# Altium footprint library 1206_Chip_Resistor.PcbLib: 1 footprints
Each footprint in its own frame and in the unit in brackets; x right, y up, seen from the top. Pads: shape width x height; smd on the part's side, far side on the other; paste and mask are expansions set on the pad; w line width, h text height; cw(c..) or ccw(c..) is an arc to the next point about the centre after c.
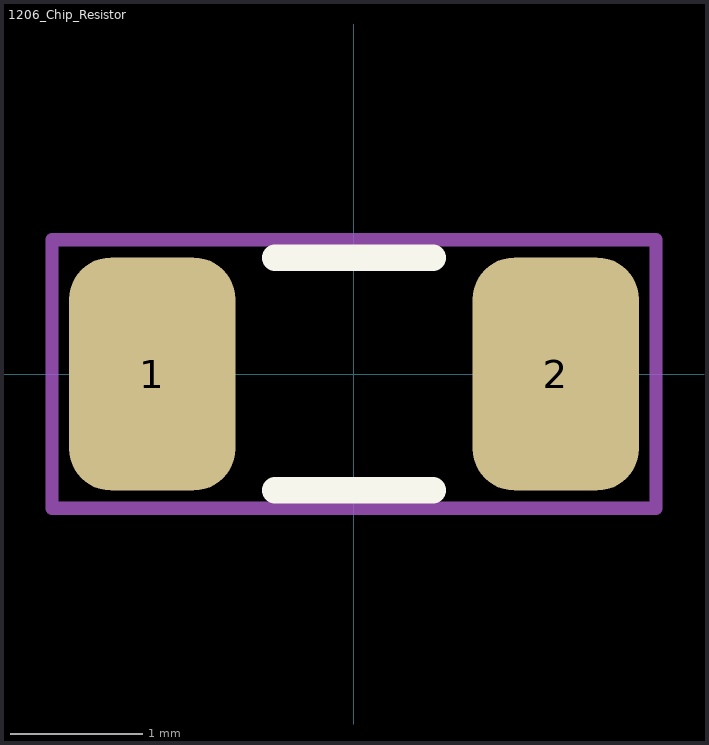
[diagram p0: the footprint, top view; thin cyan lines are the x and y axes]

## 1206_Chip_Resistor [mm]
pads (2):
  rrect50% 1.258x1.762 smd: 1(-1.527,0) 2(1.527,0)
Top Overlay:
  lines w0.2: -0.598,-0.881 0.598,-0.881 ; -0.598,0.881 0.598,0.881
Mechanical 1:
  lines w0.1: -2.286,-1.016 2.286,-1.016 2.286,1.016 -2.286,1.016 -2.286,-1.016
  text ".Designator" at 0,0.188 h1
Top Courtyard:
  text "+" at -0.5,-0.75 h1.5
3D body "resistencia_smd_1206.step": height 0.59, standoff 0, extent -1.6,-0.8 1.6,0.8